# Altium footprint library 4.3TFTLCD.PcbLib: 11 footprints
Each footprint in its own frame and in the unit in brackets; x right, y up, seen from the top. Pads: shape width x height; smd on the part's side, far side on the other; paste and mask are expansions set on the pad; w line width, h text height; cw(c..) or ccw(c..) is an arc to the next point about the centre after c.
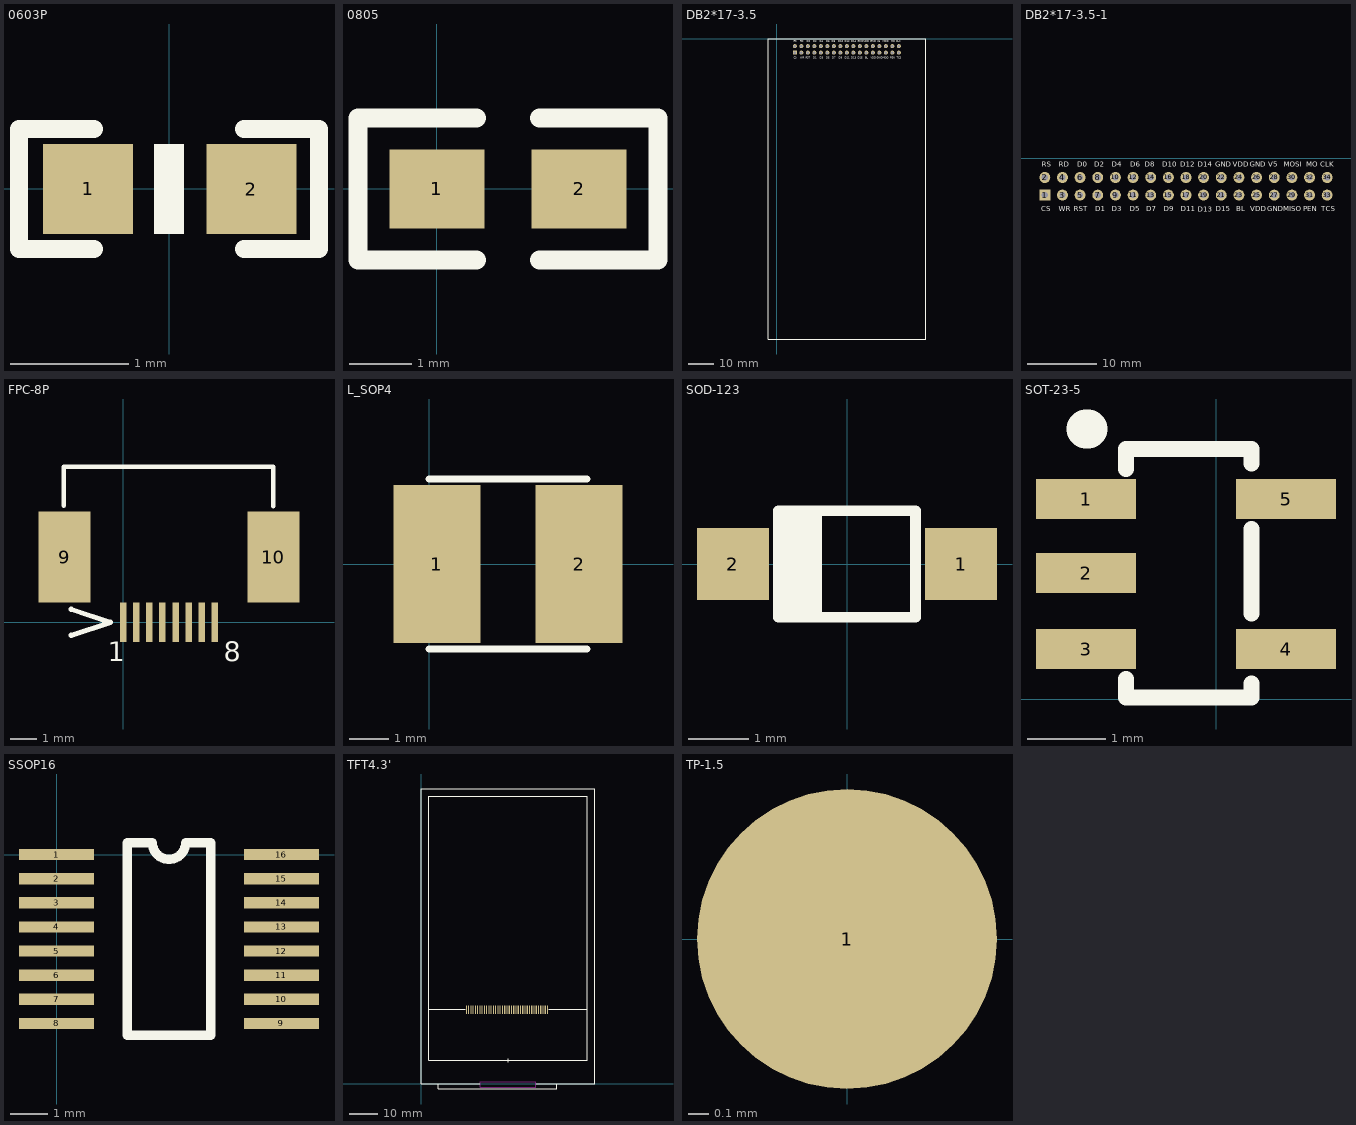
[diagram p0: the footprints below, top view; thin cyan lines are the x and y axes]

## 0603P [mil]
pads (2):
  rect 30x30 smd: 1(-27,0) 2(27.5,-0.06)
Top Overlay:
  region: 5.02,-15.06 5.02,14.94 -4.98,14.94 -4.98,-15.06
  lines w6: -25,-20.06 -50,-20.06 -50,19.94 -25,19.94 ; 25,-20.06 50,-20.06 50,19.94 25,19.94

## 0805 [mil]
pads (2):
  rect 60x50 smd: 1(0,-0.06) 2(90,-0.06)
Top Overlay:
  lines w12: 25,-45.06 -50,-45.06 -50,44.94 25,44.94 ; 65,-45.06 140,-45.06 140,44.94 65,44.94

## DB2*17-3.5 [mil]
pads (34):
  rect 62x62 hole 35: 1(275,-210)
  round 62 hole 35: 2(275,-110) 3(375,-210) 4(375,-110) 5(475,-210) 6(475,-110) 7(575,-210) 8(575,-110) 9(675,-210) 10(675,-110) 11(775,-210) 12(775,-110) 13(875,-210) 14(875,-110) 15(975,-210) 16(975,-110) 17(1075,-210) 18(1075,-110) 19(1175,-210) 20(1175,-110) 21(1275,-210) 22(1275,-110) 23(1375,-210) 24(1375,-110) 25(1475,-210) 26(1475,-110) 27(1575,-210) 28(1575,-110) 29(1675,-210) 30(1675,-110) 31(1775,-210) 32(1775,-110) 33(1875,-210) 34(1875,-110)
Top Overlay:
  lines w10: -134.96,-4615 -134.96,0 650,0 2290.04,0 2290.04,-4615 -134.96,-4615
  text "BL" at 1360,-300 h28
  text "MISO" at 1625,-300 h28.03
  text "TCS" at 1840,-300 h28.03
  text "MO" at 1757.28,-48.58 h28.03
  text "MOSI" at 1629.33,-48.58 h28.03
  text "CLK" at 1836.02,-48.58 h28.03
  text "PEN" at 1740,-300 h28.03
  text "D11" at 1045,-300 h28
  text "GND" at 1535,-300 h28
  text "GND" at 1240.55,-48.58 h28
  text "RD" at 354.72,-48.58 h28
  text "D0" at 458.07,-48.58 h28
  text "D10" at 940.35,-48.58 h28
  text "VDD" at 1338.98,-48.58 h28
  text "GND" at 1437.4,-48.58 h28
  text "V5" at 1540.75,-48.58 h28
  text "VDD" at 1440,-300 h28
  text "D15" at 1245,-300 h28
  text "D12" at 1043.7,-48.58 h28
  text "D13" at 1142.13,-304.49 h28
  text "D9" at 950,-300 h28
  text "D8" at 841.93,-48.58 h28
  text "D6" at 758.27,-48.58 h28
  text "D5" at 755,-300 h28
  text "D4" at 654.92,-48.58 h28
  text "D3" at 655,-300 h28
  text "D2" at 556.5,-48.58 h28
  text "D1" at 560,-300 h28
  text "RST" at 440,-300 h28
  text "WR" at 355,-300 h28
  text "CS" at 255,-300 h28
  text "RS" at 256.3,-48.58 h28
  text "D7" at 850,-300 h28
  text "D14" at 1142.13,-48.58 h28
Bottom Overlay:
  lines w6: 225,-160 325,-160 325,-260 ; 225,-260 1925,-260 1925,-60 225,-60 225,-260
  lines w7: 235,-330 1925,-330
  text "CLK" at 1835,-275 h35
  text "TCS" at 1835,-350 h35
  text "NC" at 1750,-275 h35
  text "PEN" at 1725,-350 h35
  text "MO" at 1650,-275 h35
  text "MI" at 1655,-350 h35
  text "V5" at 1560,-275 h35
  text "GND" at 1530,-350 h35
  text "GND" at 1450,-275 h35
  text "VDD" at 1425,-350 h35
  text "VDD" at 1345,-275 h35
  text "BL" at 1350,-350 h35
  text "GND" at 1240,-275 h35
  text "D15" at 1240,-350 h35
  text "D14" at 1140,-275 h35
  text "D13" at 1135,-350 h35
  text "D12" at 1035,-275 h35
  text "D11" at 1035,-350 h35
  text "D10" at 930,-275 h35
  text "D9" at 945,-350 h35
  text "D8" at 850,-275 h35
  text "D7" at 850,-350 h35
  text "D6" at 755,-275 h35
  text "D5" at 755,-350 h35
  text "D4" at 650,-275 h35
  text "D3" at 650,-350 h35
  text "D2" at 550,-275 h35
  text "D1" at 555,-350 h35
  text "RST" at 435,-350 h35
  text "D0" at 450,-275 h35
  text "WR" at 350,-350 h35
  text "RD" at 350,-275 h35
  text "RS" at 245,-275 h35
  text "CS" at 240,-350 h35

## DB2*17-3.5-1 [mil]
pads (34):
  rect 62x62 hole 35: 1(275,-210)
  round 62 hole 35: 2(275,-110) 3(375,-210) 4(375,-110) 5(475,-210) 6(475,-110) 7(575,-210) 8(575,-110) 9(675,-210) 10(675,-110) 11(775,-210) 12(775,-110) 13(875,-210) 14(875,-110) 15(975,-210) 16(975,-110) 17(1075,-210) 18(1075,-110) 19(1175,-210) 20(1175,-110) 21(1275,-210) 22(1275,-110) 23(1375,-210) 24(1375,-110) 25(1475,-210) 26(1475,-110) 27(1575,-210) 28(1575,-110) 29(1675,-210) 30(1675,-110) 31(1775,-210) 32(1775,-110) 33(1875,-210) 34(1875,-110)
Top Overlay:
  text "BL" at 1360,-300 h28
  text "MISO" at 1625,-300 h28.03
  text "TCS" at 1840,-300 h28.03
  text "MO" at 1757.28,-48.58 h28.03
  text "MOSI" at 1629.33,-48.58 h28.03
  text "CLK" at 1836.02,-48.58 h28.03
  text "PEN" at 1740,-300 h28.03
  text "D11" at 1045,-300 h28
  text "GND" at 1535,-300 h28
  text "GND" at 1240.55,-48.58 h28
  text "RD" at 354.72,-48.58 h28
  text "D0" at 458.07,-48.58 h28
  text "D10" at 940.35,-48.58 h28
  text "VDD" at 1338.98,-48.58 h28
  text "GND" at 1437.4,-48.58 h28
  text "V5" at 1540.75,-48.58 h28
  text "VDD" at 1440,-300 h28
  text "D15" at 1245,-300 h28
  text "D12" at 1043.7,-48.58 h28
  text "D13" at 1142.13,-304.49 h28
  text "D9" at 950,-300 h28
  text "D8" at 841.93,-48.58 h28
  text "D6" at 758.27,-48.58 h28
  text "D5" at 755,-300 h28
  text "D4" at 654.92,-48.58 h28
  text "D3" at 655,-300 h28
  text "D2" at 556.5,-48.58 h28
  text "D1" at 560,-300 h28
  text "RST" at 440,-300 h28
  text "WR" at 355,-300 h28
  text "CS" at 255,-300 h28
  text "RS" at 256.3,-48.58 h28
  text "D7" at 850,-300 h28
  text "D14" at 1142.13,-48.58 h28
Bottom Overlay:
  lines w6: 225,-160 325,-160 325,-260 ; 225,-260 1925,-260 1925,-60 225,-60 225,-260
  lines w7: 235,-330 1925,-330
  text "CLK" at 1835,-275 h35
  text "TCS" at 1835,-350 h35
  text "NC" at 1750,-275 h35
  text "PEN" at 1725,-350 h35
  text "MO" at 1650,-275 h35
  text "MI" at 1655,-350 h35
  text "V5" at 1560,-275 h35
  text "GND" at 1530,-350 h35
  text "GND" at 1450,-275 h35
  text "VDD" at 1425,-350 h35
  text "VDD" at 1345,-275 h35
  text "BL" at 1350,-350 h35
  text "GND" at 1240,-275 h35
  text "D15" at 1240,-350 h35
  text "D14" at 1140,-275 h35
  text "D13" at 1135,-350 h35
  text "D12" at 1035,-275 h35
  text "D11" at 1035,-350 h35
  text "D10" at 930,-275 h35
  text "D9" at 945,-350 h35
  text "D8" at 850,-275 h35
  text "D7" at 850,-350 h35
  text "D6" at 755,-275 h35
  text "D5" at 755,-350 h35
  text "D4" at 650,-275 h35
  text "D3" at 650,-350 h35
  text "D2" at 550,-275 h35
  text "D1" at 555,-350 h35
  text "RST" at 435,-350 h35
  text "D0" at 450,-275 h35
  text "WR" at 350,-350 h35
  text "RD" at 350,-275 h35
  text "RS" at 245,-275 h35
  text "CS" at 240,-350 h35

## FPC-8P [mm]
pads (10):
  rect 0.25x1.5 smd: 1(0,0) 2(0.5,0) 3(1,0) 4(1.5,0) 5(2,0) 6(2.5,0) 7(3,0) 8(3.5,0)
  rect 2x3.5 smd: 9(-2.25,2.5) 10(5.75,2.5)
Top Overlay:
  lines w0.178: -2.286,4.47 -2.286,5.969 5.75,5.969 5.75,4.45
  lines w0.2: -2,-0.5 -0.5,0 -2,0.5
  text "1" at -0.6,-1.5 h0.76
  text "8" at 3.85,-1.5 h0.76

## L_SOP4 [mm]
pads (2):
  rect 2.2x4 smd: 1(0.2,0) 2(3.8,0)
Top Overlay:
  lines w0.178: 0,-2.15 4,-2.15 ; 0,2.15 4,2.15

## SOD-123 [mm]
pads (2):
  rect 1.2x1.2 smd: 1(1.905,0) 2(-1.905,0)
Top Overlay:
  rectangle: -1.142,-0.889 -0.507,0.889
  lines w0.178: -0.508,-0.889 -0.508,0.889 ; -1.143,-0.889 1.143,-0.889 1.143,-0.445 1.143,0.445 1.143,0.889 -1.143,0.889 -1.143,-0.889

## SOT-23-5 [mil]
pads (5):
  rect 50x20 smd: 1(-65,100) 2(-65,63) 3(-65,25) 4(35,25) 5(35,100)
Top Overlay:
  lines w8: -45,10 -45,0.68 17.76,0.68 17.76,7.76 ; -45,115 -45,125 17.76,125 17.76,117.76 ; 17.76,42.76 17.76,85
  lines w19.68: -65,135 -64,135

## SSOP16 [mm]
pads (16):
  rect 2x0.3 smd: 1(0,0) 2(0,-0.643) 3(0,-1.286) 4(0,-1.929) 5(0,-2.572) 6(0,-3.215) 7(0,-3.858) 8(0,-4.501) 9(6,-4.501) 10(6,-3.858) 11(6,-3.215) 12(6,-2.572) 13(6,-1.929) 14(6,-1.286) 15(6,-0.643) 16(6,0)
Top Overlay:
  lines w0.254: 1.889,-4.822 1.889,0.322 2.553,0.322 ccw(c3,0.322) 3.447,0.322 4.111,0.322 4.111,-4.822 1.889,-4.822

## TFT4.3' [mm]
pads (37):
  rect 0.4x3 smd: 1(16.006,26.396) 2(16.806,26.396) 3(17.606,26.396) 4(18.406,26.396) 5(19.206,26.396) 6(20.006,26.396) 7(20.806,26.396) 8(21.606,26.396) 9(22.406,26.396) 10(23.206,26.396) 11(24.006,26.396) 12(24.806,26.396) 13(25.606,26.396) 14(26.406,26.396) 15(27.206,26.396) 16(28.006,26.396) 17(28.806,26.396) 18(29.606,26.396) 19(30.406,26.396) 20(31.206,26.396) 21(32.006,26.396) 22(32.806,26.396) 23(33.606,26.396) 24(34.406,26.396) 25(35.206,26.396) 26(36.006,26.396) 27(36.806,26.396) 28(37.606,26.396) 29(38.406,26.396) 30(39.206,26.396) 31(40.006,26.396) 32(40.806,26.396) 33(41.606,26.396) 34(42.406,26.396) 35(43.206,26.396) 36(44.006,26.396) 37(44.806,26.396)
Top Overlay:
  lines w0.203: 2.7,26.416 15.621,26.416 ; 6,0 6,-1.8 48,-1.8 48,0 ; 20.7,0 0,0 0,104.65 61.56,104.65 61.56,0 40.85,0 ; 30.78,7.75 30.78,9 ; 45.212,26.416 58.86,26.416 ; 2.7,8.41 2.7,102.01 58.85,102.01 58.86,102 58.86,8.41 2.7,8.41
Keep-Out Layer:
  lines w0.203: 20.9,-1.25 40.66,-1.25 40.66,0.75 20.9,0.75 20.9,-1.25

## TP-1.5 [mm]
pads (1):
  round 1.5 smd: 1(0,0)